# Altium footprint library РАЗЪЕМЫ-MM.PcbLib: 85 footprints (part 6 of 6)
Each footprint in its own frame and in the unit in brackets; x right, y up, seen from the top. Pads: shape width x height; smd on the part's side, far side on the other; paste and mask are expansions set on the pad; w line width, h text height; cw(c..) or ccw(c..) is an arc to the next point about the centre after c.
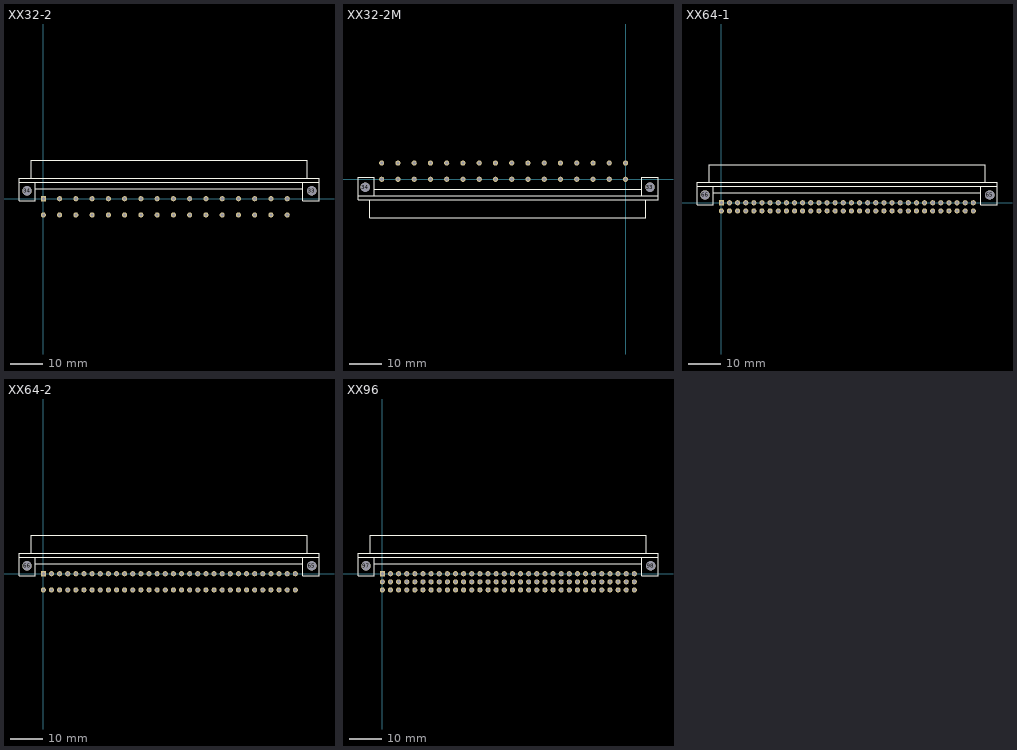
[diagram p5: the footprints below, top view; thin cyan lines are the x and y axes]

## XX32-2 [mm]
pads (34):
  rect 1.6x1.6 hole 1: 1(0,0)
  round 1.6 hole 1: 2(5.08,0) 3(10.16,0) 4(15.24,0) 5(20.32,0) 6(25.4,0) 7(30.48,0) 8(35.56,0) 9(40.64,0) 10(45.72,0) 11(50.8,0) 12(55.88,0) 13(60.96,0) 14(66.04,0) 15(71.12,0) 16(76.2,0) 17(0,-5.08) 18(5.08,-5.08) 19(10.16,-5.08) 20(15.24,-5.08) 21(20.32,-5.08) 22(25.4,-5.08) 23(30.48,-5.08) 24(35.56,-5.08) 25(40.64,-5.08) 26(45.72,-5.08) 27(50.8,-5.08) 28(55.88,-5.08) 29(60.96,-5.08) 30(66.04,-5.08) 31(71.12,-5.08) 32(76.2,-5.08)
  round 2.9 hole 2.9: 33(83.89,2.455) 34(-5.11,2.455)
Top Overlay:
  lines w0.25: -7.61,5.205 86.14,5.205 ; -3.735,6.455 -3.735,11.955 82.515,11.955 82.515,6.455 ; -2.61,3.08 81.14,3.08 ; -2.61,5.205 -2.61,-0.67 -7.61,-0.67 -7.61,6.455 86.14,6.455 86.14,-0.67 81.14,-0.67 81.14,5.205

## XX32-2M [mm]
pads (34):
  round 1.6 hole 1: 1(0,0) 2(-5.08,0) 3(-10.16,0) 4(-15.24,0) 5(-20.32,0) 6(-25.4,0) 7(-30.48,0) 8(-35.56,0) 9(-40.64,0) 10(-45.72,0) 11(-50.8,0) 12(-55.88,0) 13(-60.96,0) 14(-66.04,0) 15(-71.12,0) 16(-76.2,0) 17(0,5.08) 18(-5.08,5.08) 19(-10.16,5.08) 20(-15.24,5.08) 21(-20.32,5.08) 22(-25.4,5.08) 23(-30.48,5.08) 24(-35.56,5.08) 25(-40.64,5.08) 26(-45.72,5.08) 27(-50.8,5.08) 28(-55.88,5.08) 29(-60.96,5.08) 30(-66.04,5.08) 31(-71.12,5.08) 32(-76.2,5.08)
  round 2.9 hole 2.9: 33(7.65,-2.455) 34(-81.35,-2.455)
Top Overlay:
  lines w0.25: -83.6,-5.205 10.15,-5.205 ; -79.975,-6.455 -79.975,-11.955 6.275,-11.955 6.275,-6.455 ; -78.6,-5.205 -78.6,0.67 -83.6,0.67 -83.6,-6.455 10.15,-6.455 10.15,0.67 5.15,0.67 5.15,-5.205 ; -78.6,-3.08 5.15,-3.08

## XX64-1 [mm]
pads (66):
  rect 1.6x1.6 hole 1: 1(0,0)
  round 1.6 hole 1: 2(2.54,0) 3(5.08,0) 4(7.62,0) 5(10.16,0) 6(12.7,0) 7(15.24,0) 8(17.78,0) 9(20.32,0) 10(22.86,0) 11(25.4,0) 12(27.94,0) 13(30.48,0) 14(33.02,0) 15(35.56,0) 16(38.1,0) 17(40.64,0) 18(43.18,0) 19(45.72,0) 20(48.26,0) 21(50.8,0) 22(53.34,0) 23(55.88,0) 24(58.42,0) 25(60.96,0) 26(63.5,0) 27(66.04,0) 28(68.58,0) 29(71.12,0) 30(73.66,0) 31(76.2,0) 32(78.74,0) 33(0,-2.54) 34(2.54,-2.54) 35(5.08,-2.54) 36(7.62,-2.54) 37(10.16,-2.54) 38(12.7,-2.54) 39(15.24,-2.54) 40(17.78,-2.54) 41(20.32,-2.54) 42(22.86,-2.54) 43(25.4,-2.54) 44(27.94,-2.54) 45(30.48,-2.54) 46(33.02,-2.54) 47(35.56,-2.54) 48(38.1,-2.54) 49(40.64,-2.54) 50(43.18,-2.54) 51(45.72,-2.54) 52(48.26,-2.54) 53(50.8,-2.54) 54(53.34,-2.54) 55(55.88,-2.54) 56(58.42,-2.54) 57(60.96,-2.54) 58(63.5,-2.54) 59(66.04,-2.54) 60(68.58,-2.54) 61(71.12,-2.54) 62(73.66,-2.54) 63(76.2,-2.54) 64(78.74,-2.54)
  round 2.9 hole 2.9: 65(83.89,2.455) 66(-5.11,2.455)
Top Overlay:
  lines w0.25: -7.61,5.205 86.14,5.205 ; -3.735,6.455 -3.735,11.955 82.515,11.955 82.515,6.455 ; -2.61,3.08 81.14,3.08 ; -2.61,5.205 -2.61,-0.67 -7.61,-0.67 -7.61,6.455 86.14,6.455 86.14,-0.67 81.14,-0.67 81.14,5.205

## XX64-2 [mm]
pads (66):
  rect 1.6x1.6 hole 1: 1(0,0)
  round 1.6 hole 1: 2(2.54,0) 3(5.08,0) 4(7.62,0) 5(10.16,0) 6(12.7,0) 7(15.24,0) 8(17.78,0) 9(20.32,0) 10(22.86,0) 11(25.4,0) 12(27.94,0) 13(30.48,0) 14(33.02,0) 15(35.56,0) 16(38.1,0) 17(40.64,0) 18(43.18,0) 19(45.72,0) 20(48.26,0) 21(50.8,0) 22(53.34,0) 23(55.88,0) 24(58.42,0) 25(60.96,0) 26(63.5,0) 27(66.04,0) 28(68.58,0) 29(71.12,0) 30(73.66,0) 31(76.2,0) 32(78.74,0) 33(0,-5.08) 34(2.54,-5.08) 35(5.08,-5.08) 36(7.62,-5.08) 37(10.16,-5.08) 38(12.7,-5.08) 39(15.24,-5.08) 40(17.78,-5.08) 41(20.32,-5.08) 42(22.86,-5.08) 43(25.4,-5.08) 44(27.94,-5.08) 45(30.48,-5.08) 46(33.02,-5.08) 47(35.56,-5.08) 48(38.1,-5.08) 49(40.64,-5.08) 50(43.18,-5.08) 51(45.72,-5.08) 52(48.26,-5.08) 53(50.8,-5.08) 54(53.34,-5.08) 55(55.88,-5.08) 56(58.42,-5.08) 57(60.96,-5.08) 58(63.5,-5.08) 59(66.04,-5.08) 60(68.58,-5.08) 61(71.12,-5.08) 62(73.66,-5.08) 63(76.2,-5.08) 64(78.74,-5.08)
  round 2.9 hole 2.9: 65(83.89,2.455) 66(-5.11,2.455)
Top Overlay:
  lines w0.25: -7.61,5.205 86.14,5.205 ; -3.735,6.455 -3.735,11.955 82.515,11.955 82.515,6.455 ; -2.61,3.08 81.14,3.08 ; -2.61,5.205 -2.61,-0.67 -7.61,-0.67 -7.61,6.455 86.14,6.455 86.14,-0.67 81.14,-0.67 81.14,5.205

## XX96 [mm]
pads (98):
  rect 1.6x1.6 hole 1: 1(0,0)
  round 1.6 hole 1: 2(2.54,0) 3(5.08,0) 4(7.62,0) 5(10.16,0) 6(12.7,0) 7(15.24,0) 8(17.78,0) 9(20.32,0) 10(22.86,0) 11(25.4,0) 12(27.94,0) 13(30.48,0) 14(33.02,0) 15(35.56,0) 16(38.1,0) 17(40.64,0) 18(43.18,0) 19(45.72,0) 20(48.26,0) 21(50.8,0) 22(53.34,0) 23(55.88,0) 24(58.42,0) 25(60.96,0) 26(63.5,0) 27(66.04,0) 28(68.58,0) 29(71.12,0) 30(73.66,0) 31(76.2,0) 32(78.74,0) 33(0,-2.54) 34(2.54,-2.54) 35(5.08,-2.54) 36(7.62,-2.54) 37(10.16,-2.54) 38(12.7,-2.54) 39(15.24,-2.54) 40(17.78,-2.54) 41(20.32,-2.54) 42(22.86,-2.54) 43(25.4,-2.54) 44(27.94,-2.54) 45(30.48,-2.54) 46(33.02,-2.54) 47(35.56,-2.54) 48(38.1,-2.54) 49(40.64,-2.54) 50(43.18,-2.54) 51(45.72,-2.54) 52(48.26,-2.54) 53(50.8,-2.54) 54(53.34,-2.54) 55(55.88,-2.54) 56(58.42,-2.54) 57(60.96,-2.54) 58(63.5,-2.54) 59(66.04,-2.54) 60(68.58,-2.54) 61(71.12,-2.54) 62(73.66,-2.54) 63(76.2,-2.54) 64(78.74,-2.54) 65(0,-5.08) 66(2.54,-5.08) 67(5.08,-5.08) 68(7.62,-5.08) 69(10.16,-5.08) 70(12.7,-5.08) 71(15.24,-5.08) 72(17.78,-5.08) 73(20.32,-5.08) 74(22.86,-5.08) 75(25.4,-5.08) 76(27.94,-5.08) 77(30.48,-5.08) 78(33.02,-5.08) 79(35.56,-5.08) 80(38.1,-5.08) 81(40.64,-5.08) 82(43.18,-5.08) 83(45.72,-5.08) 84(48.26,-5.08) 85(50.8,-5.08) 86(53.34,-5.08) 87(55.88,-5.08) 88(58.42,-5.08) 89(60.96,-5.08) 90(63.5,-5.08) 91(66.04,-5.08) 92(68.58,-5.08) 93(71.12,-5.08) 94(73.66,-5.08) 95(76.2,-5.08) 96(78.74,-5.08)
  round 2.9 hole 2.9: 97(-5.11,2.455) 98(83.89,2.455)
Top Overlay:
  lines w0.25: -7.61,5.205 86.14,5.205 ; -3.735,6.455 -3.735,11.955 82.515,11.955 82.515,6.455 ; -2.61,3.08 81.14,3.08 ; -2.61,5.205 -2.61,-0.67 -7.61,-0.67 -7.61,6.455 86.14,6.455 86.14,-0.67 81.14,-0.67 81.14,5.205